# Altium footprint library HANDS-FREEE-PcbLib-V1.11.PcbLib: 211 footprints (part 4 of 14)
Each footprint in its own frame and in the unit in brackets; x right, y up, seen from the top. Pads: shape width x height; smd on the part's side, far side on the other; paste and mask are expansions set on the pad; w line width, h text height; cw(c..) or ccw(c..) is an arc to the next point about the centre after c.
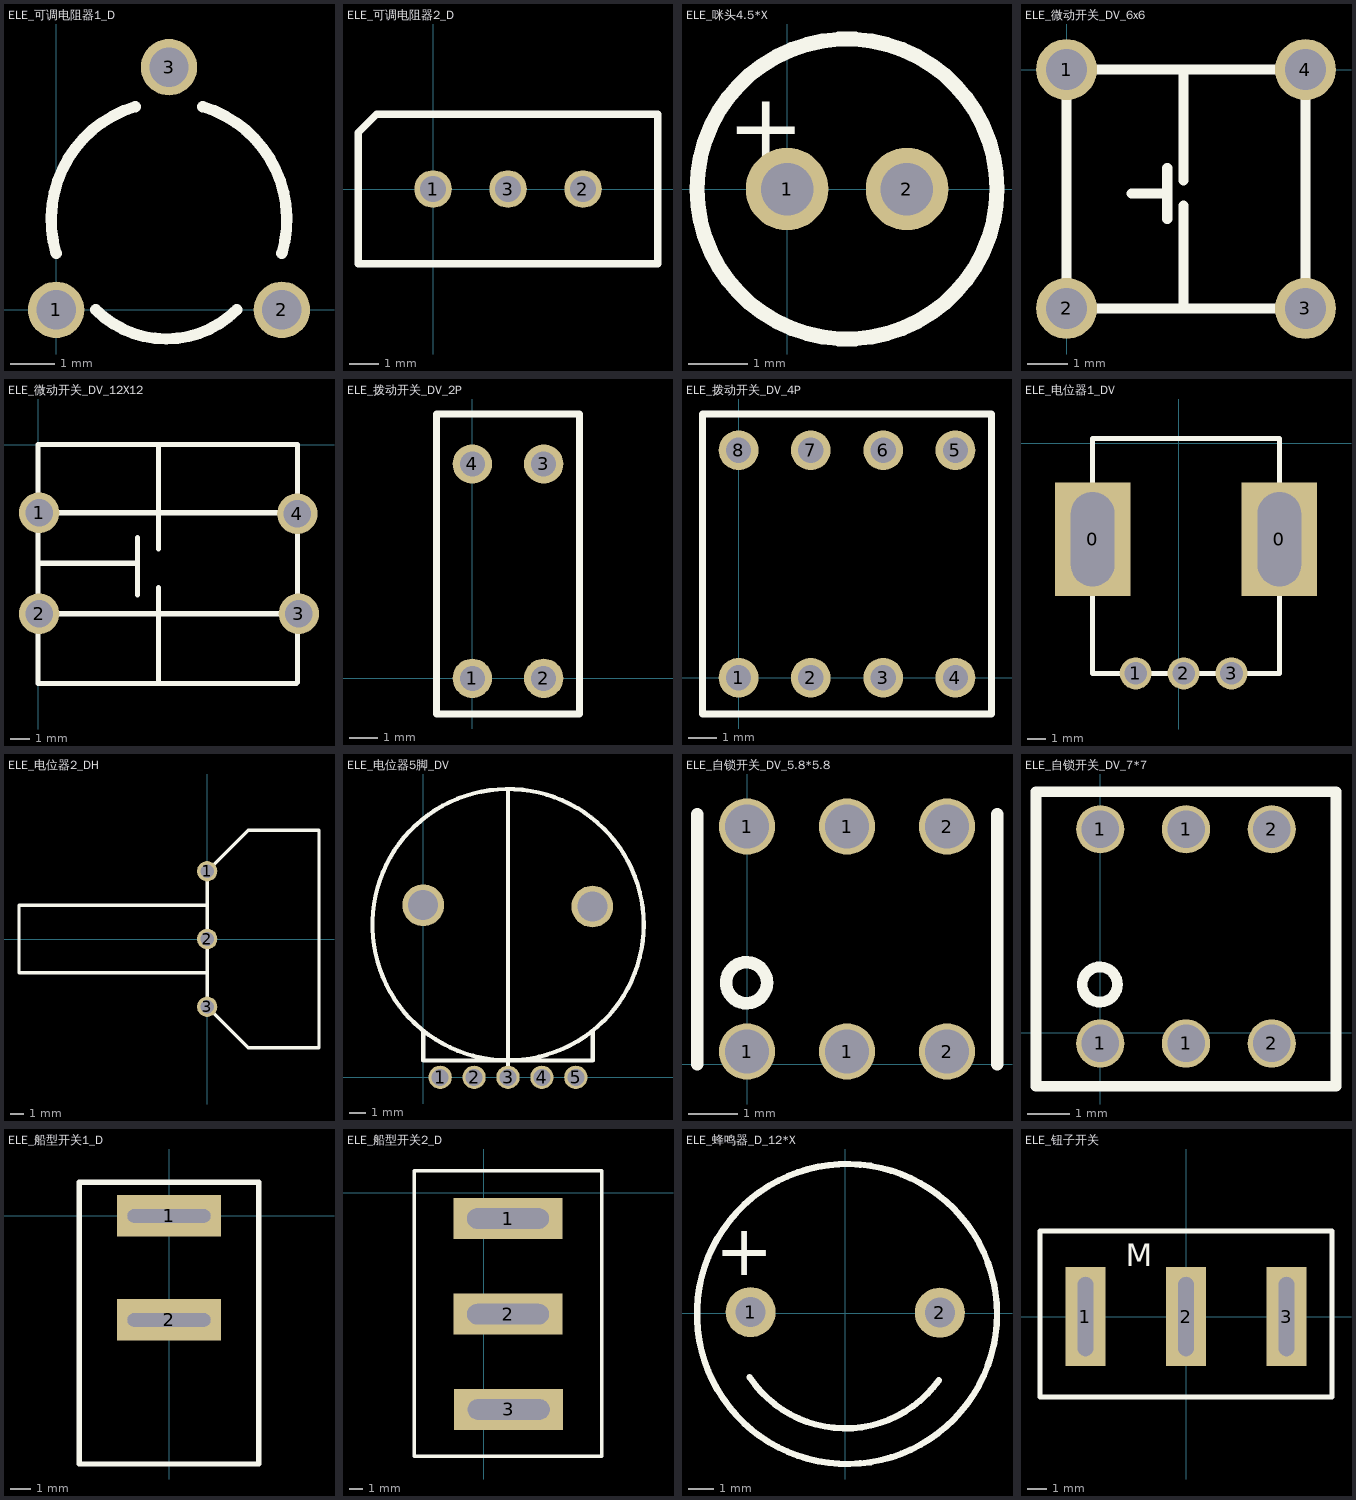
[diagram p3: the footprints below, top view; thin cyan lines are the x and y axes]

## ELE_可调电阻器1_D [mil]
pads (3):
  round 50 hole 35: 1(0,0) 2(200,0) 3(100,215)
Top Overlay:
  lines w10: 0,50 cw(c100,80) 70,180 ; 35,0 ccw(c97.5,62.5) 160,0 ; 130,180 cw(c100,80) 200,50

## ELE_可调电阻器2_D [mil]
pads (3):
  round 50 hole 35: 1(0,0) 2(200,0) 3(100,0)
Top Overlay:
  lines w10: -100,-100 0,-100 200,-100 300,-100 300,0 300,100 200,100 0,100 -75,100 -100,75 -100,0 -100,-100

## ELE_咪头4.5*X [mil]
pads (2):
  round 55 hole 35: 1(0,0) 2(80,0)
Top Overlay:
  circle w10: c40,0 r100
  text "+" at -40,20 h45

## ELE_微动开关_DV_6x6 [mil]
pads (4):
  round 60 hole 40: 1(0,0) 2(0,-235) 3(235,-235) 4(235,0)
Top Overlay:
  lines w10: 64,-122 99,-122 ; 99,-147 99,-97 ; 115,-233 115,-134 ; 115,-109 115,0 ; 0,-235 235,-235 235,0 0,0 0,-235

## ELE_微动开关_DV_12X12 [mil]
pads (4):
  round 80 hole 55: 1(2,-135) 2(2,-335) 3(516,-335) 4(513,-137)
Top Overlay:
  lines w7.87: 0,-232 3,-235
  lines w10: 0,-469 0,0 234,0 513,0 513,-137 513,-222 513,-471 511,-473 469,-473 0,-473 235,-473 ; 2,-335 515,-335 516,-336 ; 2,-135 511,-135 512,-136 ; 3,-235 191,-235 ; 197,-298 197,-184 ; 238,-467 238,-283 ; 238,-207 238,-97 238,-83.75 238,-29.25 238,-2

## ELE_拨动开关_DV_2P [mil]
pads (4):
  round 55 hole 35: 1(0,0) 2(100,0) 3(100,300) 4(0,300)
Top Overlay:
  lines w10: -50,365 -50,370 ; -50,370 -50,-50 150,-50 150,370 -50,370

## ELE_拨动开关_DV_4P [mil]
pads (8):
  round 55 hole 35: 1(0,0) 2(100,0) 3(200,0) 4(300,0) 5(300,315) 6(200,315) 7(100,315) 8(0,315)
Top Overlay:
  lines w10: -50,-50 -50,200 -50,365 0,365 350,365 350,-50 300,-50 -50,-50

## ELE_电位器1_DV [mm]
pads (5):
  rect 4x6 hole 2.3 slot 5 at 90 deg: 0(-4.572,-5.08) 0(5.334,-5.08)
  round 1.7 hole 1.2: 1(-2.286,-12.192) 2(0.254,-12.192) 3(2.794,-12.192)
Top Overlay:
  lines w0.254: -4.572,-12.192 5.334,-12.192 5.334,0.254 -4.572,0.254 -4.572,-12.192

## ELE_电位器2_DH [mil]
pads (3):
  round 60 hole 40: 1(0,200) 2(0,0) 3(0,-200)
Top Overlay:
  lines w10: 0,-100 -555,-100 -555,100 0,100 ; 0,-200 121,-321 330,-321 330,321 121,321 0,200 0,-200

## ELE_电位器5脚_DV [mil]
pads (7):
  round 55 hole 40: 1(40,0) 2(120,0) 3(200,0) 4(280,0) 5(360,0)
  round 98.43 hole 70.87: ""(0,406) ""(399,403)
Top Overlay:
  circle w10: c200,360 r320
  lines w10: 0,110 0,40 400,40 400,110 ; 198,680 200,678 200,0

## ELE_自锁开关_DV_5.8*5.8 [mil]
pads (6):
  round 45 hole 35: 1(0,10) 1(0,190) 1(80,10) 1(80,190) 2(160,10) 2(160,190)
Top Overlay:
  circle w10: c-0.4,65 r16.4
  lines w10: -40,0 -40,200 ; 200,0 200,200

## ELE_自锁开关_DV_7*7 [mil]
pads (6):
  round 45 hole 35: 1(0,-10) 1(0,190) 1(80,-10) 1(80,190) 2(160,-10) 2(160,190)
Top Overlay:
  circle w10: c-0.4,45 r16.4
  lines w10: -60,-50 -60,225 220,225 220,-50 -60,-50

## ELE_船型开关1_D [mm]
pads (2):
  rect 5x2 hole 0.65 slot 4 at 0 deg: 1(0,0) 2(0,-5.004)
Top Overlay:
  lines w0.254: -4.318,-11.938 4.318,-11.938 4.318,1.626 -4.318,1.626 -4.318,-11.938

## ELE_船型开关2_D [mm]
pads (3):
  rect 8x3 hole 1.5 slot 6 at 0 deg: 1(1.778,-1.88) 2(1.778,-8.89) 3(1.829,-15.875)
Top Overlay:
  lines w0.254: -5.08,-19.304 -5.08,1.626 8.636,1.626 8.636,-19.304 -5.08,-19.304

## ELE_蜂鸣器_D_12*X [mm]
pads (2):
  round 2 hole 1.2: 1(-3.785,0.051) 2(3.785,0.025)
Top Overlay:
  circle w0.254: c0.071,-0.025 r6
  lines w0.254: -3.828,-2.552 ccw(c0,0) 3.743,-2.674
  text "+" at -5.207,1.524 h2.03

## ELE_钮子开关 [mm]
pads (3):
  rect 2x5 hole 0.8 slot 4 at 90 deg: 1(-5.08,0) 2(0,0) 3(5.08,0)
Top Overlay:
  lines w0.254: -7.366,-4.064 -7.366,4.318 ; -7.366,-4.064 7.366,-4.064 ; -7.366,-4.064 7.366,-4.064 ; -7.366,-4.064 -7.366,4.318 ; -7.366,4.318 7.366,4.318 ; -7.366,4.318 7.366,4.318 ; 7.366,-4.064 7.366,4.318 ; 7.366,-4.064 7.366,4.318
  text "M" at -3.048,2.54 h1.14